# Altium footprint library PcbLib.PcbLib: 1 footprints
Each footprint in its own frame and in the unit in brackets; x right, y up, seen from the top. Pads: shape width x height; smd on the part's side, far side on the other; paste and mask are expansions set on the pad; w line width, h text height; cw(c..) or ccw(c..) is an arc to the next point about the centre after c.
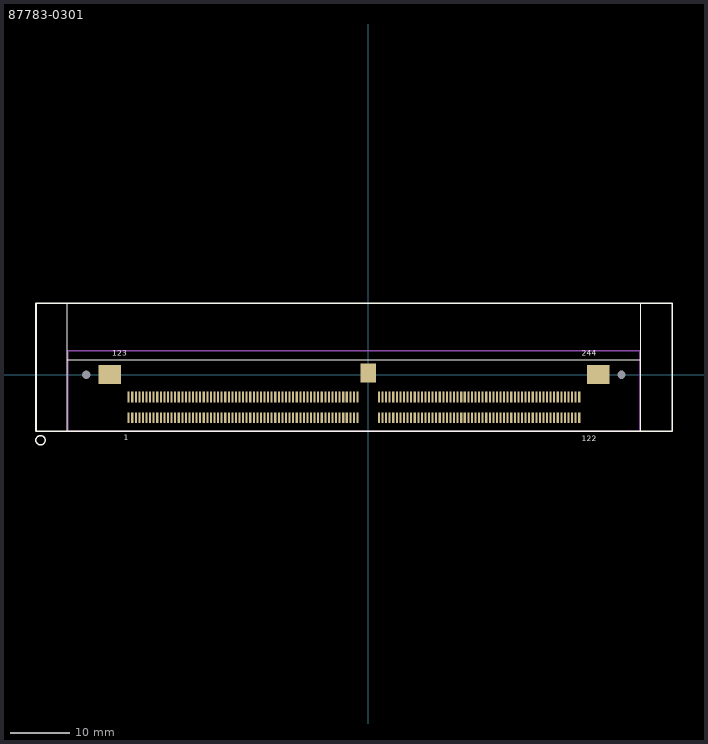
[diagram p0: the footprint, top view; thin cyan lines are the x and y axes]

## 87783-0301 [mm] "Molex 87783-0301"
height 15
pads (249):
  rect 0.35x1.8 smd: 1(-40.2,-7.25) 2(-39.6,-7.25) 3(-39,-7.25) 4(-38.4,-7.25) 5(-37.8,-7.25) 6(-37.2,-7.25) 7(-36.6,-7.25) 8(-36,-7.25) 9(-35.4,-7.25) 10(-34.8,-7.25) 11(-34.2,-7.25) 12(-33.6,-7.25) 13(-33,-7.25) 14(-32.4,-7.25) 15(-31.8,-7.25) 16(-31.2,-7.25) 17(-30.6,-7.25) 18(-30,-7.25) 19(-29.4,-7.25) 20(-28.8,-7.25) 21(-28.2,-7.25) 22(-27.6,-7.25) 23(-27,-7.25) 24(-26.4,-7.25) 25(-25.8,-7.25) 26(-25.2,-7.25) 27(-24.6,-7.25) 28(-24,-7.25) 29(-23.4,-7.25) 30(-22.8,-7.25) 31(-22.2,-7.25) 32(-21.6,-7.25) 33(-21,-7.25) 34(-20.4,-7.25) 35(-19.8,-7.25) 36(-19.2,-7.25) 37(-18.6,-7.25) 38(-18,-7.25) 39(-17.4,-7.25) 40(-16.8,-7.25) 41(-16.2,-7.25) 42(-15.6,-7.25) 43(-15,-7.25) 44(-14.4,-7.25) 45(-13.8,-7.25) 46(-13.2,-7.25) 47(-12.6,-7.25) 48(-12,-7.25) 49(-11.4,-7.25) 50(-10.8,-7.25) 51(-10.2,-7.25) 52(-9.6,-7.25) 53(-9,-7.25) 54(-8.4,-7.25) 55(-7.8,-7.25) 56(-7.2,-7.25) 57(-6.6,-7.25) 58(-6,-7.25) 59(-5.4,-7.25) 60(-4.8,-7.25) 61(-4.2,-7.25) 62(-3.6,-7.25) 63(-3,-7.25) 64(-2.4,-7.25) 65(-1.8,-7.25) 66(1.8,-7.25) 67(2.4,-7.25) 68(3,-7.25) 69(3.6,-7.25) 70(4.2,-7.25) 71(4.8,-7.25) 72(5.4,-7.25) 73(6,-7.25) 74(6.6,-7.25) 75(7.2,-7.25) 76(7.8,-7.25) 77(8.4,-7.25) 78(9,-7.25) 79(9.6,-7.25) 80(10.2,-7.25) 81(10.8,-7.25) 82(11.4,-7.25) 83(12,-7.25) 84(12.6,-7.25) 85(13.2,-7.25) 86(13.8,-7.25) 87(14.4,-7.25) 88(15,-7.25) 89(15.6,-7.25) 90(16.2,-7.25) 91(16.8,-7.25) 92(17.4,-7.25) 93(18,-7.25) 94(18.6,-7.25) 95(19.2,-7.25) 96(19.8,-7.25) 97(20.4,-7.25) 98(21,-7.25) 99(21.6,-7.25) 100(22.2,-7.25) 101(22.8,-7.25) 102(23.4,-7.25) 103(24,-7.25) 104(24.6,-7.25) 105(25.2,-7.25) 106(25.8,-7.25) 107(26.4,-7.25) 108(27,-7.25) 109(27.6,-7.25) 110(28.2,-7.25) 111(28.8,-7.25) 112(29.4,-7.25) 113(30,-7.25) 114(30.6,-7.25) 115(31.2,-7.25) 116(31.8,-7.25) 117(32.4,-7.25) 118(33,-7.25) 119(33.6,-7.25) 120(34.2,-7.25) 121(34.8,-7.25) 122(35.4,-7.25) 123(-40.2,-3.75) 124(-39.6,-3.75) 125(-39,-3.75) 126(-38.4,-3.75) 127(-37.8,-3.75) 128(-37.2,-3.75) 129(-36.6,-3.75) 130(-36,-3.75) 131(-35.4,-3.75) 132(-34.8,-3.75) 133(-34.2,-3.75) 134(-33.6,-3.75) 135(-33,-3.75) 136(-32.4,-3.75) 137(-31.8,-3.75) 138(-31.2,-3.75) 139(-30.6,-3.75) 140(-30,-3.75) 141(-29.4,-3.75) 142(-28.8,-3.75) 143(-28.2,-3.75) 144(-27.6,-3.75) 145(-27,-3.75) 146(-26.4,-3.75) 147(-25.8,-3.75) 148(-25.2,-3.75) 149(-24.6,-3.75) 150(-24,-3.75) 151(-23.4,-3.75) 152(-22.8,-3.75) 153(-22.2,-3.75) 154(-21.6,-3.75) 155(-21,-3.75) 156(-20.4,-3.75) 157(-19.8,-3.75) 158(-19.2,-3.75) 159(-18.6,-3.75) 160(-18,-3.75) 161(-17.4,-3.75) 162(-16.8,-3.75) 163(-16.2,-3.75) 164(-15.6,-3.75) 165(-15,-3.75) 166(-14.4,-3.75) 167(-13.8,-3.75) 168(-13.2,-3.75) 169(-12.6,-3.75) 170(-12,-3.75) 171(-11.4,-3.75) 172(-10.8,-3.75) 173(-10.2,-3.75) 174(-9.6,-3.75) 175(-9,-3.75) 176(-8.4,-3.75) 177(-7.8,-3.75) 178(-7.2,-3.75) 179(-6.6,-3.75) 180(-6,-3.75) 181(-5.4,-3.75) 182(-4.8,-3.75) 183(-4.2,-3.75) 184(-3.6,-3.75) 185(-3,-3.75) 186(-2.4,-3.75) 187(-1.8,-3.75) 188(1.8,-3.75) 189(2.4,-3.75) 190(3,-3.75) 191(3.6,-3.75) 192(4.2,-3.75) 193(4.8,-3.75) 194(5.4,-3.75) 195(6,-3.75) 196(6.6,-3.75) 197(7.2,-3.75) 198(7.8,-3.75) 199(8.4,-3.75) 200(9,-3.75) 201(9.6,-3.75) 202(10.2,-3.75) 203(10.8,-3.75) 204(11.4,-3.75) 205(12,-3.75) 206(12.6,-3.75) 207(13.2,-3.75) 208(13.8,-3.75) 209(14.4,-3.75) 210(15,-3.75) 211(15.6,-3.75) 212(16.2,-3.75) 213(16.8,-3.75) 214(17.4,-3.75) 215(18,-3.75) 216(18.6,-3.75) 217(19.2,-3.75) 218(19.8,-3.75) 219(20.4,-3.75) 220(21,-3.75) 221(21.6,-3.75) 222(22.2,-3.75) 223(22.8,-3.75) 224(23.4,-3.75) 225(24,-3.75) 226(24.6,-3.75) 227(25.2,-3.75) 228(25.8,-3.75) 229(26.4,-3.75) 230(27,-3.75) 231(27.6,-3.75) 232(28.2,-3.75) 233(28.8,-3.75) 234(29.4,-3.75) 235(30,-3.75) 236(30.6,-3.75) 237(31.2,-3.75) 238(31.8,-3.75) 239(32.4,-3.75) 240(33,-3.75) 241(33.6,-3.75) 242(34.2,-3.75) 243(34.8,-3.75) 244(35.4,-3.75)
  round 1 hole 1.4 unplated: ""(-47.3,0) ""(42.5,0)
  rect 3.8x3.2 smd: ""(-43.4,0) ""(38.6,0)
  rect 2.6x3.2 smd: ""(0,0.25)
Top Overlay:
  circle w0.254: c-55,-11 r0.781
  lines w0.127: -50.5,2.54 45.75,2.54
  lines w0.2: -50.5,-9.5 -50.5,12 ; 45.75,-9.5 45.75,12
  lines w0.254: -55.75,-9.5 -55.75,-0.2 -55.75,12 -32.85,12 51,12 51,4.6 51,-9.5 1.3,-9.5 -55.75,-9.5
  text "123" at -42.926,3.175 h0.89
  text "244" at 35.814,3.175 h0.89
  text "122" at 35.814,-11.176 h0.89
  text "1" at -41.021,-11.049 h0.89
Mechanical 29:
  lines w0.254: -50.4,-9.5 45.6,-9.5 45.6,4 -50.4,4 -50.4,-9.5
  text ".Designator" at -6.5,-6 h2
3D body "877830301.stp": height 14.77, standoff -4.06, extent -50.4,-10.907 45.6,11.207